# Altium footprint library libreriaPcb.PcbLib: 683 footprints (part 2 of 44)
Each footprint in its own frame and in the unit in brackets; x right, y up, seen from the top. Pads: shape width x height; smd on the part's side, far side on the other; paste and mask are expansions set on the pad; w line width, h text height; cw(c..) or ccw(c..) is an arc to the next point about the centre after c.
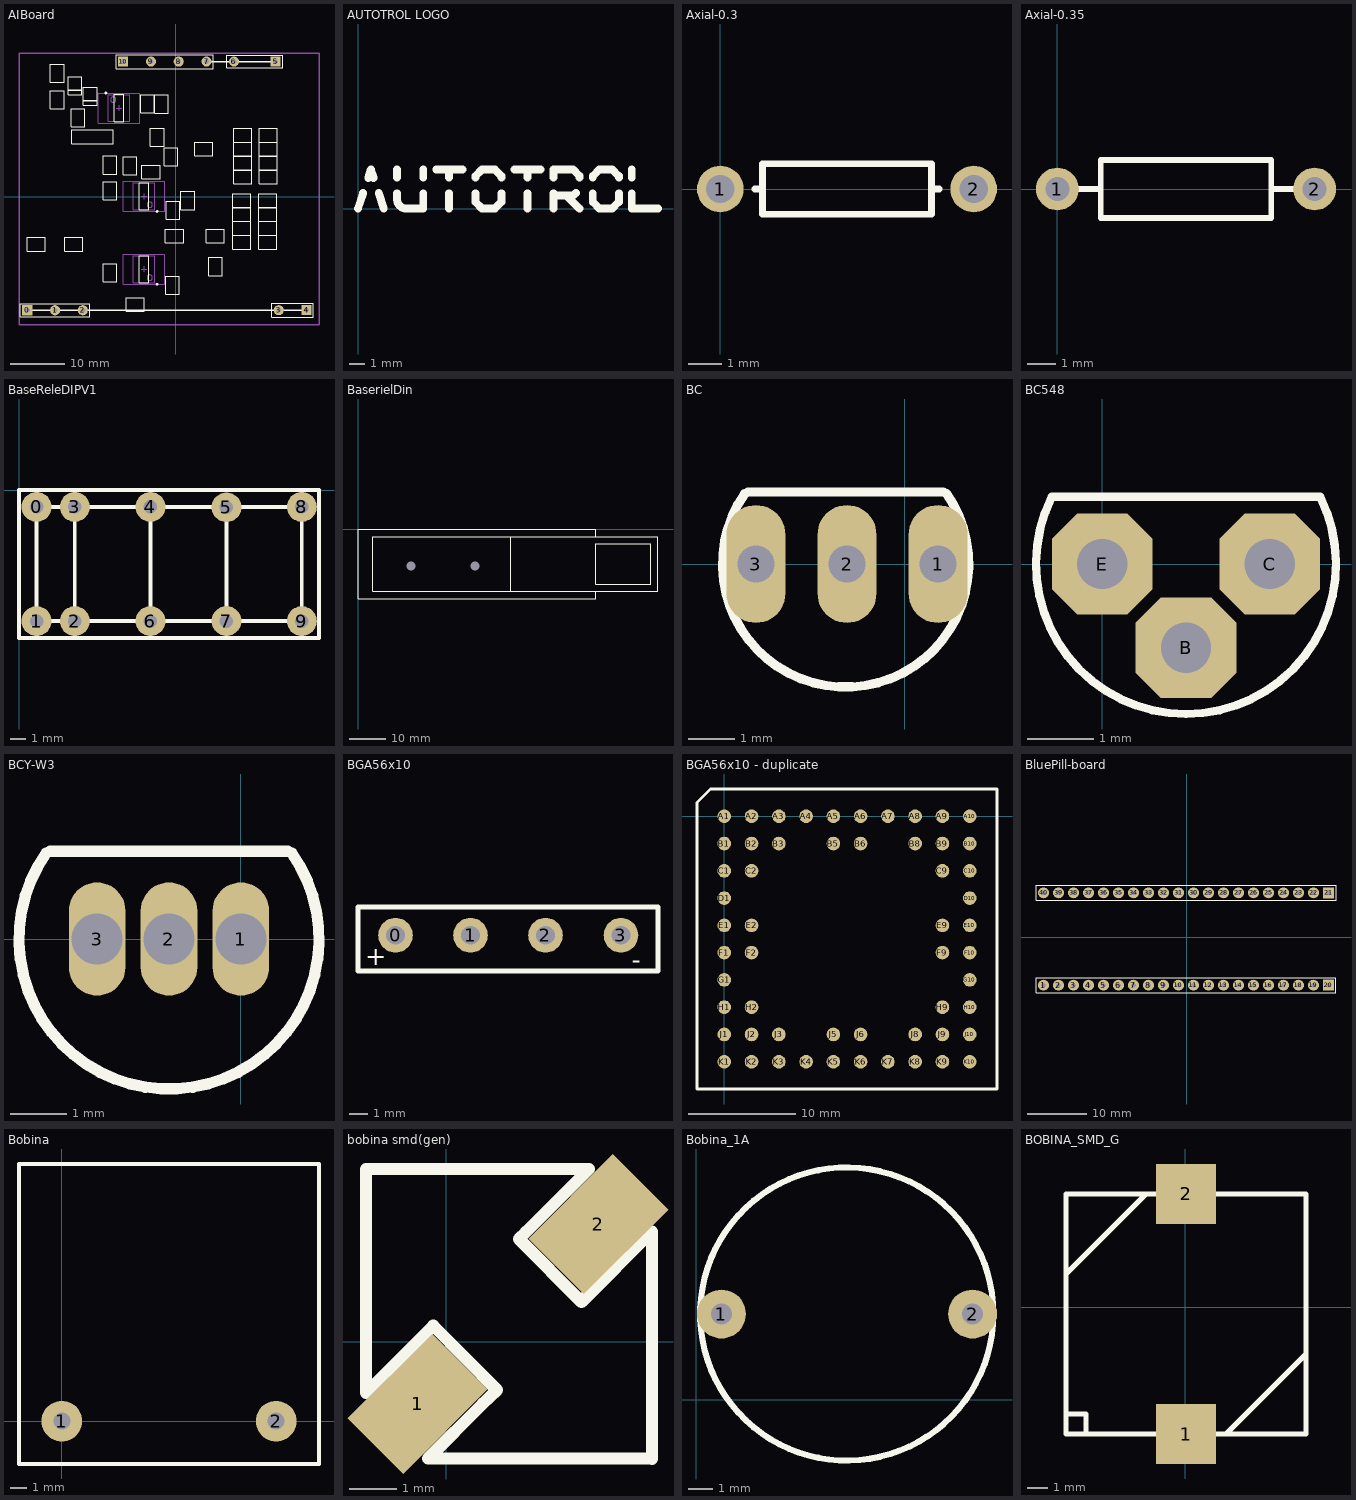
[diagram p1: the footprints below, top view; thin cyan lines are the x and y axes]

## AIBoard [mm]
pads (11):
  rect 1.85x1.85 hole 0.9: 0(-27.16,-20.764) 4(23.911,-20.752) 5(18.252,24.713) 10(-9.627,24.714)
  round 1.85 hole 0.9: 1(-22.08,-20.764) 2(-17,-20.764) 3(18.831,-20.752) 6(10.632,24.713) 7(5.613,24.714) 8(0.533,24.714) 9(-4.547,24.714)
Top Overlay:
  drawing of 241 lines, arcs and shapes, not listed
Mechanical 1:
  lines w0.254: -28.677,-23.419 26.187,-23.419 26.187,26.238 -28.677,26.238 -28.677,-23.419
Mechanical 13:
  circle w0.1: c-4.767,-14.809 r0.5
  circle w0.1: c-4.767,-1.474 r0.5
  circle w0.1: c-11.439,17.755 r0.5
  lines w0.1: -12.339,13.755 -8.439,13.755 -8.439,18.655 -12.339,18.655 -12.339,13.755 ; -7.767,-15.709 -3.867,-15.709 -3.867,-10.809 -7.767,-10.809 -7.767,-15.709 ; -7.767,-2.374 -3.867,-2.374 -3.867,2.526 -7.767,2.526 -7.767,-2.374
Mechanical 15:
  lines w0.1: -10.889,16.205 -9.889,16.205 ; -10.389,15.705 -10.389,16.705 ; -6.317,-13.259 -5.317,-13.259 ; -6.317,0.076 -5.317,0.076 ; -5.817,-13.759 -5.817,-12.759 ; -5.817,-0.424 -5.817,0.576 ; -14.139,13.455 -6.639,13.455 -6.639,18.955 -14.139,18.955 -14.139,13.455 ; -9.567,-16.009 -2.067,-16.009 -2.067,-10.509 -9.567,-10.509 -9.567,-16.009 ; -9.567,-2.674 -2.067,-2.674 -2.067,2.826 -9.567,2.826 -9.567,-2.674
3D body: height 1.75, standoff 0, extent -7.767,-15.709 -3.867,-10.809
3D body: height 1.75, standoff 0, extent -7.767,-2.374 -3.867,2.526
3D body: height 1.75, standoff 0, extent -12.339,13.755 -8.439,18.655
3D body: height 1.5, standoff 0, extent -10.744,23.426 6.782,25.951
3D body: height 6, standoff 0, extent 5.114,24.214 6.114,25.214
3D body: height 6, standoff 0, extent 0.034,24.214 1.034,25.214
3D body: height 1, standoff 0, extent -1.644,8.595 -0.044,8.895
3D body: height 1, standoff 0, extent -1.644,5.695 -0.044,5.995
3D body: height 1, standoff 0, extent -1.644,5.995 -0.044,8.595
3D body: height 1, standoff 0, extent -9.176,4.084 -7.577,4.384
3D body: height 1, standoff 0, extent -9.176,6.984 -7.577,7.284
3D body: height 1, standoff 0, extent -9.176,4.384 -7.577,6.984
3D body: height 1, standoff 0, extent -17.364,-9.507 -17.064,-7.907
3D body: height 1, standoff 0, extent -20.264,-9.507 -19.964,-7.907
3D body: height 1, standoff 0, extent -19.964,-9.507 -17.364,-7.907
3D body: height 1, standoff 0, extent -24.222,-9.507 -23.922,-7.907
3D body: height 1, standoff 0, extent -27.122,-9.507 -26.822,-7.907
3D body: height 1, standoff 0, extent -26.822,-9.507 -24.222,-7.907
3D body: height 6, standoff 0, extent -13.184,10.498 -12.184,11.498
3D body: height 6, standoff 0, extent -15.724,10.498 -14.724,11.498
3D body: height 6, standoff 0, extent -18.264,10.498 -17.264,11.498
3D body: height 1.5, standoff 0, extent -19.135,9.628 -11.315,12.368
3D body: height 6, standoff 0, extent -17.499,-21.264 -16.499,-20.264
3D body: height 6, standoff 0, extent -22.579,-21.264 -21.579,-20.264
3D body: height 6, standoff 0, extent -27.659,-21.264 -26.659,-20.264
3D body: height 1.5, standoff 0, extent -28.53,-22.102 -15.63,-19.477
3D body: height 6, standoff 0, extent -10.126,24.214 -9.126,25.214
3D body: height 6, standoff 0, extent -5.046,24.214 -4.046,25.214
3D body: height 6, standoff 0, extent 10.133,24.213 11.133,25.213
3D body: height 6, standoff 0, extent 17.753,24.213 18.753,25.213
3D body: height 1.5, standoff 0, extent 9.262,23.441 19.622,25.966
3D body: height 1, standoff 0, extent -12.839,-15.194 -11.24,-12.594
3D body: height 1, standoff 0, extent -12.839,-12.594 -11.24,-12.294
3D body: height 1, standoff 0, extent -12.839,-15.494 -11.24,-15.194
3D body: height 1, standoff 0, extent -1.409,-17.48 0.19,-14.88
3D body: height 1, standoff 0, extent -1.409,-14.88 0.19,-14.58
3D body: height 1, standoff 0, extent -1.409,-17.78 0.19,-17.48
3D body: height 1, standoff 0, extent -1.529,-7.963 1.071,-6.363
3D body: height 1, standoff 0, extent -1.829,-7.963 -1.529,-6.363
3D body: height 1, standoff 0, extent 1.071,-7.963 1.371,-6.363
3D body: height 1, standoff 0, extent 6.464,-14.051 8.064,-11.451
3D body: height 1, standoff 0, extent 6.464,-14.351 8.064,-14.051
3D body: height 1, standoff 0, extent 6.464,-11.451 8.064,-11.151
3D body: height 1, standoff 0, extent 5.964,-7.963 8.564,-6.363
3D body: height 1, standoff 0, extent 5.664,-7.963 5.964,-6.363
3D body: height 1, standoff 0, extent 8.564,-7.963 8.864,-6.363
3D body: height 1, standoff 0, extent -1.282,-3.764 0.317,-1.164
3D body: height 1, standoff 0, extent -1.282,-1.164 0.317,-0.864
3D body: height 1, standoff 0, extent -1.282,-4.064 0.317,-3.764
3D body: height 1, standoff 0, extent 1.384,-1.986 2.984,0.614
3D body: height 1, standoff 0, extent 1.384,-2.286 2.984,-1.986
3D body: height 1, standoff 0, extent 1.384,0.614 2.984,0.914
3D body: height 1, standoff 0, extent -5.847,3.721 -3.247,5.321
3D body: height 1, standoff 0, extent -3.247,3.721 -2.947,5.321
3D body: height 1, standoff 0, extent -6.147,3.721 -5.847,5.321
3D body: height 1, standoff 0, extent 15.489,-9.106 18.089,-7.506
3D body: height 1, standoff 0, extent 15.189,-9.106 15.489,-7.506
3D body: height 1, standoff 0, extent 18.089,-9.106 18.389,-7.506
3D body: height 1, standoff 0, extent 15.489,-6.566 18.089,-4.966
3D body: height 1, standoff 0, extent 15.189,-6.566 15.489,-4.966
3D body: height 1, standoff 0, extent 18.089,-6.566 18.389,-4.966
3D body: height 1, standoff 0, extent 15.489,-4.026 18.089,-2.426
3D body: height 1, standoff 0, extent 15.189,-4.026 15.489,-2.426
3D body: height 1, standoff 0, extent 18.089,-4.026 18.389,-2.426
3D body: height 1, standoff 0, extent 15.489,-1.486 18.089,0.114
3D body: height 1, standoff 0, extent 15.189,-1.486 15.489,0.114
3D body: height 1, standoff 0, extent 18.089,-1.486 18.389,0.114
3D body: height 1, standoff 0, extent 10.79,-9.106 13.39,-7.506
3D body: height 1, standoff 0, extent 10.49,-9.106 10.79,-7.506
3D body: height 1, standoff 0, extent 13.39,-9.106 13.69,-7.506
3D body: height 1, standoff 0, extent 10.79,-6.566 13.39,-4.966
3D body: height 1, standoff 0, extent 10.49,-6.566 10.79,-4.966
3D body: height 1, standoff 0, extent 13.39,-6.566 13.69,-4.966
3D body: height 1, standoff 0, extent 10.79,-4.026 13.39,-2.426
3D body: height 1, standoff 0, extent 10.49,-4.026 10.79,-2.426
3D body: height 1, standoff 0, extent 13.39,-4.026 13.69,-2.426
3D body: height 1, standoff 0, extent 10.79,-1.486 13.39,0.114
3D body: height 1, standoff 0, extent 10.49,-1.486 10.79,0.114
3D body: height 1, standoff 0, extent 13.39,-1.486 13.69,0.114
3D body: height 1, standoff 0, extent 15.616,2.832 18.216,4.432
3D body: height 1, standoff 0, extent 15.316,2.832 15.616,4.432
3D body: height 1, standoff 0, extent 18.216,2.832 18.516,4.432
3D body: height 1, standoff 0, extent 15.616,5.372 18.216,6.972
3D body: height 1, standoff 0, extent 15.316,5.372 15.616,6.972
3D body: height 1, standoff 0, extent 18.216,5.372 18.516,6.972
3D body: height 1, standoff 0, extent 15.616,7.912 18.216,9.512
3D body: height 1, standoff 0, extent 15.316,7.912 15.616,9.512
3D body: height 1, standoff 0, extent 18.216,7.912 18.516,9.512
3D body: height 1, standoff 0, extent 15.616,10.452 18.216,12.052
3D body: height 1, standoff 0, extent 15.316,10.452 15.616,12.052
3D body: height 1, standoff 0, extent 18.216,10.452 18.516,12.052
3D body: height 1, standoff 0, extent 10.917,2.832 13.517,4.432
3D body: height 1, standoff 0, extent 10.617,2.832 10.917,4.432
3D body: height 1, standoff 0, extent 13.517,2.832 13.817,4.432
3D body: height 1, standoff 0, extent 10.917,5.372 13.517,6.972
3D body: height 1, standoff 0, extent 10.617,5.372 10.917,6.972
3D body: height 1, standoff 0, extent 13.517,5.372 13.817,6.972
3D body: height 1, standoff 0, extent 10.917,7.912 13.517,9.512
3D body: height 1, standoff 0, extent 10.617,7.912 10.917,9.512
3D body: height 1, standoff 0, extent 13.517,7.912 13.817,9.512
3D body: height 1, standoff 0, extent 10.917,10.452 13.517,12.052
3D body: height 1, standoff 0, extent 10.617,10.452 10.917,12.052
3D body: height 1, standoff 0, extent 13.517,10.452 13.817,12.052
3D body: height 1, standoff 0, extent -12.839,-0.208 -11.24,2.392
3D body: height 1, standoff 0, extent -12.839,2.392 -11.24,2.692
3D body: height 1, standoff 0, extent -12.839,-0.508 -11.24,-0.208
3D body: height 1, standoff 0, extent -12.839,4.491 -11.24,7.091
3D body: height 1, standoff 0, extent -12.839,7.091 -11.24,7.391
3D body: height 1, standoff 0, extent -12.839,4.191 -11.24,4.491
3D body: height 1, standoff 0, extent -8.768,-20.536 -6.168,-18.936
3D body: height 1, standoff 0, extent -6.168,-20.536 -5.868,-18.936
3D body: height 1, standoff 0, extent -9.068,-20.536 -8.768,-18.936
3D body: height 6, standoff 0, extent 18.331,-21.252 19.331,-20.252
3D body: height 6, standoff 0, extent 23.411,-21.252 24.411,-20.252
3D body: height 1.5, standoff 0, extent 17.461,-22.122 25.281,-19.382
3D body: height 1, standoff 0, extent 3.805,7.912 6.405,9.512
3D body: height 1, standoff 0, extent 3.505,7.912 3.805,9.512
3D body: height 1, standoff 0, extent 6.405,7.912 6.705,9.512
3D body: height 1, standoff 0, extent -19.247,18.987 -17.647,21.587
3D body: height 1, standoff 0, extent -19.247,18.687 -17.647,18.987
3D body: height 1, standoff 0, extent -19.247,21.587 -17.647,21.887
3D body: height 1, standoff 0, extent -16.453,17.082 -14.853,19.682
3D body: height 1, standoff 0, extent -16.453,16.782 -14.853,17.082
3D body: height 1, standoff 0, extent -16.453,19.682 -14.853,19.982
3D body: height 1, standoff 0, extent -18.682,13.127 -17.082,15.727
3D body: height 1, standoff 0, extent -18.682,12.827 -17.082,13.127
3D body: height 1, standoff 0, extent -18.682,15.727 -17.082,16.027
3D body: height 1, standoff 0, extent -22.492,16.429 -20.892,19.029
3D body: height 1, standoff 0, extent -22.492,16.129 -20.892,16.429
3D body: height 1, standoff 0, extent -22.492,19.029 -20.892,19.329
3D body: height 1, standoff 0, extent -4.204,9.571 -2.604,12.171
3D body: height 1, standoff 0, extent -4.204,9.271 -2.604,9.571
3D body: height 1, standoff 0, extent -4.204,12.171 -2.604,12.471
3D body: height 1, standoff 0, extent -22.492,21.255 -20.892,23.855
3D body: height 1, standoff 0, extent -22.492,20.955 -20.892,21.255
3D body: height 1, standoff 0, extent -22.492,23.855 -20.892,24.155
3D body: height 1, standoff 0, extent -5.981,15.667 -4.382,18.267
3D body: height 1, standoff 0, extent -5.981,18.267 -4.382,18.567
3D body: height 1, standoff 0, extent -5.981,15.367 -4.382,15.667
3D body: height 1, standoff 0, extent -3.442,15.667 -1.842,18.267
3D body: height 1, standoff 0, extent -3.442,15.367 -1.842,15.667
3D body: height 1, standoff 0, extent -3.442,18.267 -1.842,18.567
3D body: height 0.5, standoff 0, extent -28.575,-23.139 25.984,25.984

## AUTOTROL LOGO [mm]
Top Overlay:
  lines w0.508: 0,0 0.33,1.016 ; 0.66,1.981 0.838,2.54 1.016,1.981 ; 1.346,1.016 1.676,0 ; 2.54,0.584 2.54,0.991 ; 2.54,2.007 2.54,2.54 ; 2.549,0.609 ccw(c3.124,0.576) 3.124,0 4.242,0 4.242,0.991 ; 4.242,2.007 4.242,2.54 ; 5.08,2.54 6.782,2.54 ; 5.918,0 5.918,0.991 ; 5.918,2.007 5.918,2.54 ; 7.62,0.432 8.052,0 ; 7.62,0.457 7.62,0.991 ; 7.62,2.007 7.62,2.083 ; 7.62,2.108 8.052,2.54 8.865,2.54 ; 8.077,0 8.89,0 9.322,0.432 ; 8.89,2.54 9.322,2.108 ; 9.322,0.457 9.322,0.991 ; 9.322,2.007 9.322,2.083 ; 10.16,2.54 11.862,2.54 ; 10.998,0 10.998,0.991 ; 10.998,2.007 10.998,2.54 ; 12.7,0 12.7,0.991 ; 12.7,0.838 13.97,0.838 14.148,1.016 ; 12.7,2.007 12.7,2.54 13.97,2.54 14.376,2.134 14.376,2.007 ; 13.564,0.813 14.376,0 ; 15.24,0.432 15.672,0 ; 15.24,0.457 15.24,0.991 ; 15.24,2.007 15.24,2.083 ; 15.24,2.108 15.672,2.54 16.485,2.54 ; 15.697,0 16.51,0 16.942,0.432 ; 16.51,2.54 16.942,2.108 ; 16.942,0.457 16.942,0.991 ; 16.942,2.007 16.942,2.083 ; 17.78,0.991 17.78,0 19.482,0 ; 17.78,2.007 17.78,2.54

## Axial-0.3 [mm]
pads (2):
  round 1.4 hole 0.85: 1(0,0) 2(7.62,0)
Top Overlay:
  lines w0.2: 1.041,0 1.27,0 ; 6.579,0 6.35,0 ; 6.35,0 6.35,-0.762 1.27,-0.762 1.27,0.762 6.35,0.762 6.35,0

## Axial-0.35 [mm]
pads (2):
  round 1.5 hole 0.85: 1(0,0) 2(9.017,0)
Top Overlay:
  lines w0.2: 0.762,0 1.524,0 ; 7.493,0 8.255,0 ; 1.524,-1.016 7.493,-1.016 7.493,1.016 1.524,1.016 1.524,-1.016

## BaseReleDIPV1 [mm]
pads (10):
  round 2 hole 0.9: 0(1.175,-1.125) 1(1.175,-8.75) 2(3.725,-8.75) 3(3.725,-1.125) 4(8.775,-1.125) 5(13.85,-1.15) 6(8.775,-8.75) 7(13.85,-8.746) 8(18.875,-1.125) 9(18.875,-8.75)
Top Overlay:
  lines w0.254: 3.725,-8.75 3.725,-1.125 ; 8.775,-8.75 8.775,-1.15 ; 13.825,-1.15 13.85,-1.15 13.85,-8.746 ; 0,-9.875 20.025,-9.875 20.025,0 0,0 0,-9.875 ; 1.175,-8.75 18.875,-8.75 18.875,-1.125 1.175,-1.125 1.175,-8.75
3D body: height 9.3, standoff 0, extent 0.073,-9.852 19.977,-0.023

## BaserielDin [mm]
pads (2):
  round 1.524 hole 2.5: 1(14.5,-10) 2(32,-10)
Top Overlay:
  lines w0.254: 41.746,-17 41.746,-2 ; 65,-17 82,-17 82,-2 65,-2 ; 65,-17 4,-17 4,-2 65,-2 ; 65,-17 65,-19 0,-19 0,0 65,0 65,-2 ; 65,-15 80,-15 80,-4 65,-4 65,-15
3D body: height 7, standoff 0, extent 4.001,-16.999 41.745,-2.001
3D body: height 10, standoff 0, extent 0.001,-18.999 64.999,-0.001
3D body: height 10, standoff 8, extent 41.746,-17 82,-2
3D body: height 7.1, standoff 0, extent 13,-11.499 16,-8.501
3D body: height 7.1, standoff 0, extent 30.5,-11.499 33.5,-8.501

## BC [mm]
pads (3):
  oval 1.27x2.54 hole 0.8: 1(0.72,0) 2(-1.24,0) 3(-3.2,0)
Top Overlay:
  lines w0.2: -3.441,1.52 ccw(c-1.27,0) 0.901,1.52 ; -3.37,1.55 0.83,1.55

## BC548 [mil]
pads (3):
  oct 60x60 / inner round 0 / far side oct 60x60 hole 30 paste+0: B(50,-50) C(100,0) E(0,0)
Top Overlay:
  lines w5: -30,40 ccw(c50,0) 130,40 -30,40

## BCY-W3 [mm] "TO, Flat Index; 3 In-Line, Axial Leads; Body Dia. 4.8mm"
height 1.35
pads (3):
  oval 1x2 hole 0.9: 1(0,0) 2(-1.27,0) 3(-2.54,0)
Top Overlay:
  lines w0.2: -3.441,1.52 ccw(c-1.27,0) 0.901,1.52 ; -3.37,1.55 0.83,1.55

## BGA56x10 [mm]
pads (4):
  round 1.85 hole 1: 0(8.5,-10) 1(12.5,-10) 2(16.5,-10) 3(20.524,-10)
Top Overlay:
  lines w0.254: 6.5,-11.9 6.5,-8.5 22.5,-8.5 22.5,-11.9 6.5,-11.9
  text "+" at 6.9,-11.6 h1
  text "-" at 21.1,-11.8 h1
3D body: height 18, standoff 0, extent 6.501,-11.899 22.499,-8.501

## BGA56x10 - duplicate [mm]
pads (56):
  round 1.27 smd: A1(0,0) A2(2.54,0) A3(5.08,0) A4(7.62,0) A5(10.16,0) A6(12.7,0) A7(15.24,0) A8(17.78,0) A9(20.32,0) A10(22.86,0) B1(0,-2.54) B2(2.54,-2.54) B3(5.08,-2.54) B5(10.16,-2.54) B6(12.7,-2.54) B8(17.78,-2.54) B9(20.32,-2.54) B10(22.86,-2.54) C1(0,-5.08) C2(2.54,-5.08) C9(20.32,-5.08) C10(22.86,-5.08) D1(0,-7.62) D10(22.86,-7.62) E1(0,-10.16) E2(2.54,-10.16) E9(20.32,-10.16) E10(22.86,-10.16) F1(0,-12.7) F2(2.54,-12.7) F9(20.32,-12.7) F10(22.86,-12.7) G1(0,-15.24) G10(22.86,-15.24) H1(0,-17.78) H2(2.54,-17.78) H9(20.32,-17.78) H10(22.86,-17.78) J1(0,-20.32) J2(2.54,-20.32) J3(5.08,-20.32) J5(10.16,-20.32) J6(12.7,-20.32) J8(17.78,-20.32) J9(20.32,-20.32) J10(22.86,-20.32) K1(0,-22.86) K2(2.54,-22.86) K3(5.08,-22.86) K4(7.62,-22.86) K5(10.16,-22.86) K6(12.7,-22.86) K7(15.24,-22.86) K8(17.78,-22.86) K9(20.32,-22.86) K10(22.86,-22.86)
Top Overlay:
  lines w0.254: -2.54,-25.4 25.4,-25.4 25.4,2.54 -1.27,2.54 -2.54,1.27 -2.54,-25.4

## BluePill-board [mm]
pads (40):
  round 1.85 hole 0.8: 1(-24.23,-8.158) 2(-21.69,-8.158) 3(-19.15,-8.158) 4(-16.61,-8.158) 5(-14.07,-8.158) 6(-11.53,-8.158) 7(-8.99,-8.158) 8(-6.45,-8.158) 9(-3.91,-8.158) 10(-1.37,-8.158) 11(1.17,-8.158) 12(3.71,-8.158) 13(6.25,-8.158) 14(8.79,-8.158) 15(11.33,-8.158) 16(13.87,-8.158) 17(16.41,-8.158) 18(18.95,-8.158) 19(21.49,-8.158) 22(21.493,7.481) 23(18.953,7.481) 24(16.413,7.481) 25(13.873,7.481) 26(11.333,7.481) 27(8.793,7.481) 28(6.253,7.481) 29(3.713,7.481) 30(1.173,7.481) 31(-1.367,7.481) 32(-3.907,7.481) 33(-6.447,7.481) 34(-8.987,7.481) 35(-11.527,7.481) 36(-14.067,7.481) 37(-16.607,7.481) 38(-19.147,7.481) 39(-21.687,7.481) 40(-24.227,7.481)
  rect 1.85x1.85 hole 0.8: 20(24.03,-8.158) 21(24.033,7.481)
Top Overlay:
  lines w0.2: -25.5,-9.428 -25.5,-6.888 25.3,-6.888 25.3,-9.428 23.395,-9.428 -25.5,-9.428 ; -25.497,6.211 -25.497,8.751 25.303,8.751 25.303,6.211 23.398,6.211 -25.497,6.211
3D body: height 1, standoff 0.1, extent -25.257,-11.42 25.144,11.242

## Bobina [mil]
pads (2):
  round 95 / inner round 0 / far side round 95 hole 40: 1(0,0) 2(500,0)
Top Overlay:
  lines w10: -100,-100 -100,600 600,600 600,-100 -100,-100

## bobina smd(gen) [mm]
pads (2):
  rect 2.5x1.65 smd rot 45: 1(-0.6,-1.3) 2(3.18,2.46)
Top Overlay:
  lines w0.254: 2.91,0.95 2.83,0.83 ; 2.83,0.83 1.52,2.15 1.66,2.29 2.982,3.612 -1.68,3.61 -1.68,-1.07 -0.276,0.334 1.06,-1.01 0.76,-1.3 -0.386,-2.446 4.301,-2.45 4.301,2.301 2.83,0.83

## Bobina_1A [mm]
pads (2):
  round 2 hole 0.85: 1(1.04,3.5) 2(11.3,3.5)
Top Overlay:
  circle w0.254: c6.16,3.502 r5.99
3D body: height 20, standoff 0, extent 0.17,-2.488 12.15,9.492

## BOBINA_SMD_G [mm]
pads (2):
  rect 3x3 smd: 1(0.035,-6.326) 2(0.035,5.674)
Top Overlay:
  lines w0.254: -5.965,-5.326 -4.965,-5.326 -4.965,-6.326 ; -5.965,1.674 -1.965,5.674 ; -5.965,2.437 -5.965,2.564 ; 2.035,-6.326 6.035,-2.326 ; -5.965,-6.326 6.035,-6.326 6.035,5.674 -5.965,5.674 -5.965,-6.326
3D body: height 2, standoff 0, extent -1.614,-6.781 1.665,-6.469
3D body: height 2, standoff 0, extent -1.579,5.669 1.7,5.981
3D body: height 3, standoff 0, extent -5.984,-6.453 6.162,5.55